# Altium footprint library Capacitors.PcbLib: 7 footprints
Each footprint in its own frame and in the unit in brackets; x right, y up, seen from the top. Pads: shape width x height; smd on the part's side, far side on the other; paste and mask are expansions set on the pad; w line width, h text height; cw(c..) or ccw(c..) is an arc to the next point about the centre after c.
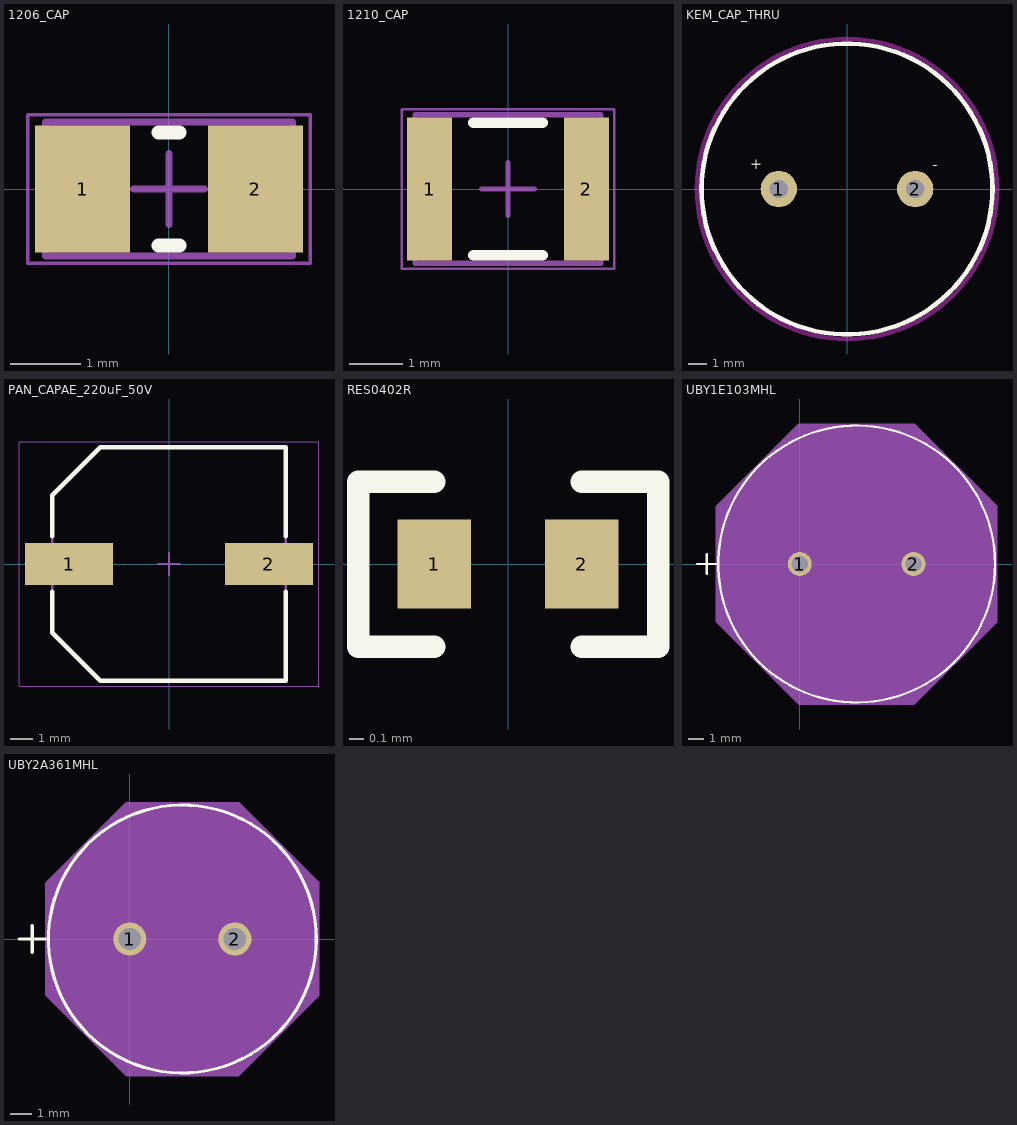
[diagram p0: the footprints below, top view; thin cyan lines are the x and y axes]

## 1206_CAP [mm] "Chip Capacitor, 2-Leads, Body 3.20x1.60mm, IPC High Density"
height 1.9
pads (2):
  rect 1.35x1.8 smd: 1(-1.225,0) 2(1.225,0)
Top Overlay:
  lines w0.2: -0.15,-0.8 0.15,-0.8 ; -0.15,0.8 0.15,0.8
Mechanical 13:
  lines w0.1: -1.75,-0.95 -1.75,0.95 1.75,0.95 1.75,-0.95 -1.75,-0.95
Mechanical 15:
  lines w0.05: -2,-1.05 -2,1.05 2,1.05 2,-1.05 -2,-1.05
  lines w0.1: -0.5,0 0.5,0 ; 0,-0.5 0,0.5
3D body "1206_CAP.step": height 1.9, standoff 0, extent -1.75,-0.95 1.75,0.95

## 1210_CAP [mm] "Chip Capacitor, 2-Leads, Body 3.20x2.50mm, IPC High Density"
height 2.8
pads (2):
  rect 0.85x2.7 smd: 1(-1.475,0) 2(1.475,0)
Top Overlay:
  lines w0.2: -0.65,-1.25 0.65,-1.25 ; -0.65,1.25 0.65,1.25
Mechanical 13:
  lines w0.1: -1.75,-1.4 1.75,-1.4 1.75,1.4 -1.75,1.4 -1.75,-1.4
Mechanical 15:
  lines w0.05: -2,-1.5 2,-1.5 2,1.5 -2,1.5 -2,-1.5
  lines w0.1: -0.5,0 0.5,0 ; 0,-0.5 0,0.5
3D body "1210_CAP.step": height 2.8, standoff 0, extent -1.75,-1.4 1.75,1.4

## KEM_CAP_THRU [mm]
pads (2):
  round 2 hole 1 paste+0: 1(-3.75,0) 2(3.75,0)
Top Overlay:
  circle w0.254: c0,0 r8
  text "-" at 5,1.5 h0.61
  text "+" at -4.75,1 h0.61
Keep-Out Layer:
  circle w0.254: c0,0 r8.25
3D body: height 36, standoff 0, extent -8,-8 8,8

## PAN_CAPAE_220uF_50V [mm] "Aluminum Electrolytic Capacitor, Body 10.30x10.30x10.50mm, IPC High Density"
height 10.5
pads (2):
  rect 3.95x1.9 smd: 1(-4.5,0) 2(4.5,0)
Top Overlay:
  lines w0.2: -5.25,-1.25 -5.25,-3.1 -3.1,-5.25 5.25,-5.25 5.25,-1.25 ; -5.25,1.25 -5.25,3.1 -3.1,5.25 5.25,5.25 5.25,1.25
Mechanical 13:
  lines w0.1: -5.25,-3.1 -3.1,-5.25 5.25,-5.25 5.25,5.25 -3.1,5.25 -5.25,3.1 -5.25,-3.1
Mechanical 15:
  lines w0.05: -6.75,-5.5 -6.75,5.5 6.75,5.5 6.75,-5.5 -6.75,-5.5
  lines w0.1: -0.5,0 0.5,0 ; 0,-0.5 0,0.5
3D body "PAN_CAPAE_220uF_50V.step": height 10.5, standoff 0, extent -6,-5.25 6,5.25

## RES0402R [mm] "resistor 0402 reflow soldering"
pads (2):
  rect 0.5x0.6 smd: 1(-0.5,0) 2(0.5,0)
Top Overlay:
  lines w0.152: -0.5,-0.559 -1.016,-0.559 -1.016,0.559 -0.5,0.559 ; 0.5,-0.559 1.016,-0.559 1.016,0.559 0.5,0.559
3D body "RES0402.stp": height 0.3, standoff 0, extent -0.5,-0.25 0.5,0.25

## UBY1E103MHL [mil] "10000 µF 25 V Aluminum Electrolytic Capacitors Radial, Can 19mOhm @ 100kHz 3000 Hrs @ 135°C"
height 1456.69
pads (2):
  round 62 hole 42 mask+0: 1(0,0) 2(295.28,0)
Top Overlay:
  circle w6: c147.64,0 r359.5
  lines w6: -266.86,0 -216.86,0 ; -241.86,-25 -241.86,25
Mechanical 13:
  circle w0: c147.64,0 r354.5
  lines w1: -266.86,0 -216.86,0 ; -241.86,-25 -241.86,25
Mechanical 15:
  region: -216.86,150.09 -2.45,364.5 297.73,364.5 512.14,150.09 512.14,-150.09 297.73,-364.5 -2.45,-364.5 -216.86,-150.09
  lines w1: -216.86,-150.09 -2.45,-364.5 297.73,-364.5 512.14,-150.09 512.14,150.09 297.73,364.5 -2.45,364.5 -216.86,150.09 -216.86,-150.09
3D body: height 10, standoff 0, extent 0,0 10,10
3D body "CAP_UBY_18X35P5_NCH.step": height 1457.6, standoff -195.98, extent -206.85,-354.29 502.14,354.28

## UBY2A361MHL [mil] "CAP ALUM 360UF 20% 100V RADIAL"
height 1456.69
pads (2):
  round 62 hole 42 mask+0: 1(0,0) 2(196.85,0)
Top Overlay:
  circle w6: c98.43,0 r251
  lines w6: -207.57,0 -157.57,0 ; -182.57,-25 -182.57,25
Mechanical 13:
  circle w0: c98.43,0 r246
  lines w1: -207.57,0 -157.57,0 ; -182.57,-25 -182.57,25
Mechanical 15:
  region: -157.57,105.41 -6.99,256 203.84,256 354.43,105.41 354.43,-105.41 203.84,-256 -6.99,-256 -157.57,-105.41
  lines w1: -157.57,-105.41 -6.99,-256 203.84,-256 354.43,-105.41 354.43,105.41 203.84,256 -6.99,256 -157.57,105.41 -157.57,-105.41
3D body: height 10, standoff 0, extent 0,0 10,10
3D body "CAP_UBY_12P5X35P5_NCH.step": height 1457.6, standoff -195.98, extent -147.66,-246 344.43,246